# Altium schematic symbol library Power_Supervisor.SchLib: 77 symbols
Pins are listed as number, name and electrical type; pins without a type are passive.

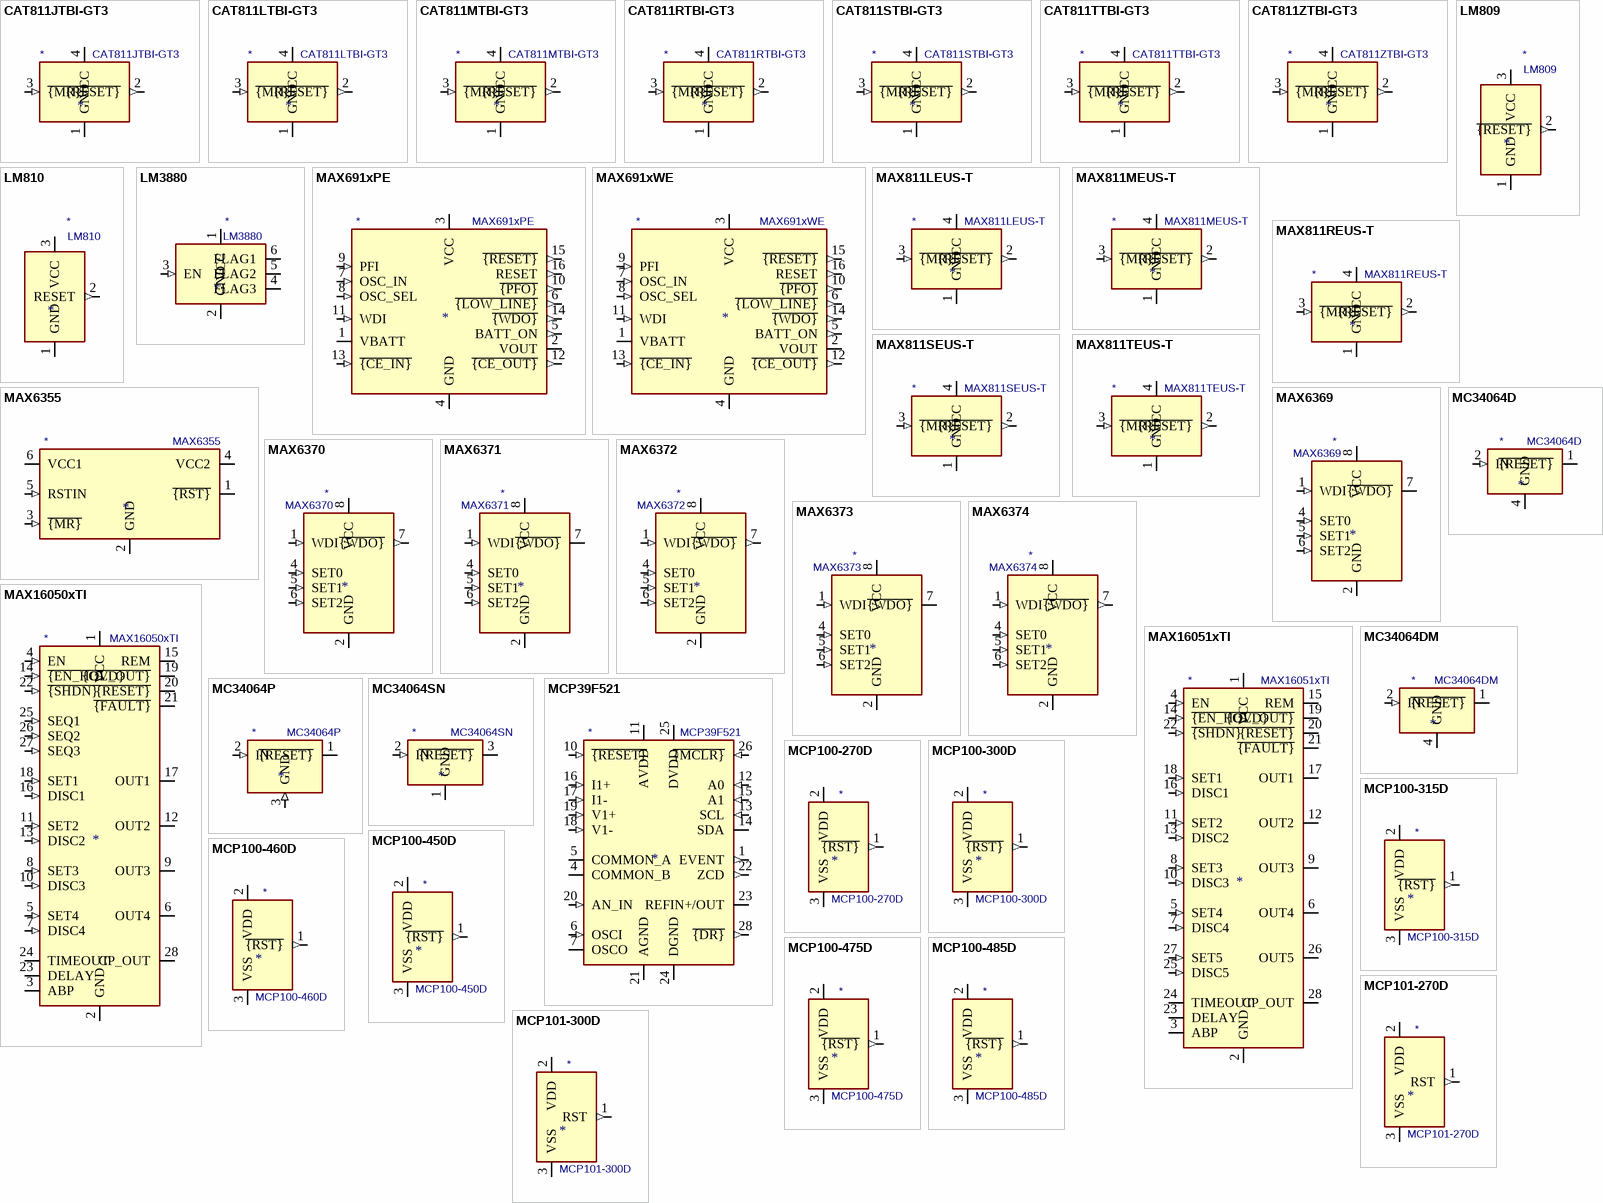
[diagram p0: symbols CAT811JTBI-GT3 to MCP101-300D]

## CAT811JTBI-GT3
designator *  value CAT811JTBI-GT3
ki_keywords: Supervisor Reset; ki_description: Power supply supervisor, Manual reset, Threshold 4.00V, SOT-143; ki_fp_filters: SOT*143*; Footprint: Package_TO_SOT_SMD:SOT-143; Supplier: http://www.onsemi.com/pub/Collateral/CAT811-D.PDF
footprint SOT-143
pins: 1 GND (power), 2 ~{{RESET}} (out), 3 ~{{MR}} (in), 4 VCC (power)

## CAT811LTBI-GT3
designator *  value CAT811LTBI-GT3
ki_keywords: Supervisor Reset; ki_description: Power supply supervisor, Manual reset, Threshold 4.63V, SOT-143; ki_fp_filters: SOT*143*; Footprint: Package_TO_SOT_SMD:SOT-143; Supplier: http://www.onsemi.com/pub/Collateral/CAT811-D.PDF
footprint SOT-143
pins: 1 GND (power), 2 ~{{RESET}} (out), 3 ~{{MR}} (in), 4 VCC (power)

## CAT811MTBI-GT3
designator *  value CAT811MTBI-GT3
ki_keywords: Supervisor Reset; ki_description: Power supply supervisor, Manual reset, Threshold 4.38V, SOT-143; ki_fp_filters: SOT*143*; Footprint: Package_TO_SOT_SMD:SOT-143; Supplier: http://www.onsemi.com/pub/Collateral/CAT811-D.PDF
footprint SOT-143
pins: 1 GND (power), 2 ~{{RESET}} (out), 3 ~{{MR}} (in), 4 VCC (power)

## CAT811RTBI-GT3
designator *  value CAT811RTBI-GT3
ki_keywords: Supervisor Reset; ki_description: Power supply supervisor, Manual reset, Threshold 2.63V, SOT-143; ki_fp_filters: SOT*143*; Footprint: Package_TO_SOT_SMD:SOT-143; Supplier: http://www.onsemi.com/pub/Collateral/CAT811-D.PDF
footprint SOT-143
pins: 1 GND (power), 2 ~{{RESET}} (out), 3 ~{{MR}} (in), 4 VCC (power)

## CAT811STBI-GT3
designator *  value CAT811STBI-GT3
ki_keywords: Supervisor Reset; ki_description: Power supply supervisor, Manual reset, Threshold 2.93V, SOT-143; ki_fp_filters: SOT*143*; Footprint: Package_TO_SOT_SMD:SOT-143; Supplier: http://www.onsemi.com/pub/Collateral/CAT811-D.PDF
footprint SOT-143
pins: 1 GND (power), 2 ~{{RESET}} (out), 3 ~{{MR}} (in), 4 VCC (power)

## CAT811TTBI-GT3
designator *  value CAT811TTBI-GT3
ki_keywords: Supervisor Reset; ki_description: Power supply supervisor, Manual reset, Threshold 3.08V, SOT-143; ki_fp_filters: SOT*143*; Footprint: Package_TO_SOT_SMD:SOT-143; Supplier: http://www.onsemi.com/pub/Collateral/CAT811-D.PDF
footprint SOT-143
pins: 1 GND (power), 2 ~{{RESET}} (out), 3 ~{{MR}} (in), 4 VCC (power)

## CAT811ZTBI-GT3
designator *  value CAT811ZTBI-GT3
ki_keywords: Supervisor Reset; ki_description: Power supply supervisor, Manual reset, Threshold 2.32V, SOT-143; ki_fp_filters: SOT*143*; Footprint: Package_TO_SOT_SMD:SOT-143; Supplier: http://www.onsemi.com/pub/Collateral/CAT811-D.PDF
footprint SOT-143
pins: 1 GND (power), 2 ~{{RESET}} (out), 3 ~{{MR}} (in), 4 VCC (power)

## LM809
designator *  value LM809
ki_keywords: reset supervisor; ki_description: Microprocessor Reset (active-low) Circuit, SOT-23; ki_fp_filters: SOT?23*; Footprint: Package_TO_SOT_SMD:SOT-23; Supplier: http://www.ti.com/lit/ds/symlink/lm809.pdf
footprint SOT-23
pins: 1 GND (power), 2 ~{{RESET}} (out), 3 VCC (power)

## LM810
designator *  value LM810
ki_keywords: reset supervisor; ki_description: Microprocessor Reset (active-high) Circuit, SOT-23; ki_fp_filters: SOT?23*; Footprint: Package_TO_SOT_SMD:SOT-23; Supplier: http://www.ti.com/lit/ds/symlink/lm809.pdf
footprint SOT-23
pins: 1 GND (power), 2 RESET (out), 3 VCC (power)

## LM3880
designator *  value LM3880
ki_keywords: Power Sequencer; ki_description: Simple Power Sequencer, SOT-23-6; ki_fp_filters: SOT?23*; Footprint: Package_TO_SOT_SMD:SOT-23-6; Supplier: http://www.ti.com/lit/ds/symlink/lm3880.pdf
footprint SOT-23-6
pins: 1 VCC (power), 2 GND (power), 3 EN (in), 4 FLAG3 (oc), 5 FLAG2 (oc), 6 FLAG1 (oc)

## MAX691xPE
designator *  value MAX691xPE
ki_keywords: Power Supervisor; ki_description: Microprocessor Supervisory Circuit, DIP-16; ki_fp_filters: DIP*W7.62mm*; Footprint: Package_DIP:DIP-16_W7.62mm; Supplier: https://datasheets.maximintegrated.com/en/ds/MAX690-MAX695.pdf
footprint DIP-16_W7.62mm
pins: 1 VBATT (power), 2 VOUT (power), 3 VCC (power), 4 GND (power), 5 BATT_ON (out), 6 ~{{LOW_LINE}} (out), 7 OSC_IN (in), 8 OSC_SEL (in), 9 PFI (in), 10 ~{{PFO}} (out), 11 WDI (in), 12 ~{{CE_OUT}} (out), 13 ~{{CE_IN}} (in), 14 ~{{WDO}} (out), 15 ~{{RESET}} (out), 16 RESET (out)

## MAX691xWE
designator *  value MAX691xWE
ki_keywords: Power Supervisor; ki_description: Microprocessor Supervisory Circuit, SOIC-16; ki_fp_filters: SOIC*7.5x10.3mm*P1.27mm*; Footprint: Package_SO:SOIC-16W_7.5x10.3mm_P1.27mm; Supplier: https://datasheets.maximintegrated.com/en/ds/MAX690-MAX695.pdf
footprint SOIC-16W_7.5x10.3mm_P1.27mm
pins: 1 VBATT (power), 2 VOUT (power), 3 VCC (power), 4 GND (power), 5 BATT_ON (out), 6 ~{{LOW_LINE}} (out), 7 OSC_IN (in), 8 OSC_SEL (in), 9 PFI (in), 10 ~{{PFO}} (out), 11 WDI (in), 12 ~{{CE_OUT}} (out), 13 ~{{CE_IN}} (in), 14 ~{{WDO}} (out), 15 ~{{RESET}} (out), 16 RESET (out)

## MAX811LEUS-T
designator *  value MAX811LEUS-T
ki_keywords: Supervisor Reset; ki_description: Power supply supervisor, Manual reset, Threshold 4.63V, SOT-143; ki_fp_filters: SOT*143*; Footprint: Package_TO_SOT_SMD:SOT-143; Supplier: https://datasheets.maximintegrated.com/en/ds/MAX811-MAX812.pdf
footprint SOT-143
pins: 1 GND (power), 2 ~{{RESET}} (out), 3 ~{{MR}} (in), 4 VCC (power)

## MAX811MEUS-T
designator *  value MAX811MEUS-T
ki_keywords: Supervisor Reset; ki_description: Power supply supervisor, Manual reset, Threshold 4.38V, SOT-143; ki_fp_filters: SOT*143*; Footprint: Package_TO_SOT_SMD:SOT-143; Supplier: https://datasheets.maximintegrated.com/en/ds/MAX811-MAX812.pdf
footprint SOT-143
pins: 1 GND (power), 2 ~{{RESET}} (out), 3 ~{{MR}} (in), 4 VCC (power)

## MAX811REUS-T
designator *  value MAX811REUS-T
ki_keywords: Supervisor Reset; ki_description: Power supply supervisor, Manual reset, Threshold 2.63V, SOT-143; ki_fp_filters: SOT*143*; Footprint: Package_TO_SOT_SMD:SOT-143; Supplier: https://datasheets.maximintegrated.com/en/ds/MAX811-MAX812.pdf
footprint SOT-143
pins: 1 GND (power), 2 ~{{RESET}} (out), 3 ~{{MR}} (in), 4 VCC (power)

## MAX811SEUS-T
designator *  value MAX811SEUS-T
ki_keywords: Supervisor Reset; ki_description: Power supply supervisor, Manual reset, Threshold 2.93V, SOT-143; ki_fp_filters: SOT*143*; Footprint: Package_TO_SOT_SMD:SOT-143; Supplier: https://datasheets.maximintegrated.com/en/ds/MAX811-MAX812.pdf
footprint SOT-143
pins: 1 GND (power), 2 ~{{RESET}} (out), 3 ~{{MR}} (in), 4 VCC (power)

## MAX811TEUS-T
designator *  value MAX811TEUS-T
ki_keywords: Supervisor Reset; ki_description: Power supply supervisor, Manual reset, Threshold 3.08V, SOT-143; ki_fp_filters: SOT*143*; Footprint: Package_TO_SOT_SMD:SOT-143; Supplier: https://datasheets.maximintegrated.com/en/ds/MAX811-MAX812.pdf
footprint SOT-143
pins: 1 GND (power), 2 ~{{RESET}} (out), 3 ~{{MR}} (in), 4 VCC (power)

## MAX6355
designator *  value MAX6355
ki_keywords: Power Supervisor; ki_description: Dual Voltage μP Supervisory Circuits, SOT-23-6; ki_fp_filters: SOT?23*; Footprint: Package_TO_SOT_SMD:SOT-23-6; Supplier: https://datasheets.maximintegrated.com/en/ds/MAX6351-MAX6360.pdf
footprint SOT-23-6
pins: 1 ~{{RST}} (oc), 2 GND (power), 3 ~{{MR}} (in), 4 VCC2 (power), 5 RSTIN (in), 6 VCC1 (power)

## MAX6369
designator *  value MAX6369
ki_keywords: watchdog supervisor; ki_description: Precision Pin-Selectable Watchdog Timer, 200us to 60s, SOT-23-8; ki_fp_filters: SOT?23*; Footprint: Package_TO_SOT_SMD:SOT-23-8; Supplier: https://datasheets.maximintegrated.com/en/ds/MAX6369-MAX6374.pdf
footprint SOT-23-8
pins: 1 WDI (in), 2 GND (power), 3 NC (in) hidden, 4 SET0 (in), 5 SET1 (in), 6 SET2 (in), 7 ~{{WDO}} (oc), 8 VCC (power)

## MAX6370
designator *  value MAX6370
ki_keywords: watchdog supervisor; ki_description: Precision Pin-Selectable Watchdog Timer, 200us to 60s, SOT-23-8; ki_fp_filters: SOT?23*; Footprint: Package_TO_SOT_SMD:SOT-23-8; Supplier: https://datasheets.maximintegrated.com/en/ds/MAX6369-MAX6374.pdf
footprint SOT-23-8
pins: 1 WDI (in), 2 GND (power), 3 NC (in) hidden, 4 SET0 (in), 5 SET1 (in), 6 SET2 (in), 7 ~{{WDO}} (out), 8 VCC (power)

## MAX6371
designator *  value MAX6371
ki_keywords: watchdog supervisor; ki_description: Precision Pin-Selectable Watchdog Timer, 200us to 60s, SOT-23-8; ki_fp_filters: SOT?23*; Footprint: Package_TO_SOT_SMD:SOT-23-8; Supplier: https://datasheets.maximintegrated.com/en/ds/MAX6369-MAX6374.pdf
footprint SOT-23-8
pins: 1 WDI (in), 2 GND (power), 3 NC (in) hidden, 4 SET0 (in), 5 SET1 (in), 6 SET2 (in), 7 ~{{WDO}} (oc), 8 VCC (power)

## MAX6372
designator *  value MAX6372
ki_keywords: watchdog supervisor; ki_description: Precision Pin-Selectable Watchdog Timer, 200us to 60s, SOT-23-8; ki_fp_filters: SOT?23*; Footprint: Package_TO_SOT_SMD:SOT-23-8; Supplier: https://datasheets.maximintegrated.com/en/ds/MAX6369-MAX6374.pdf
footprint SOT-23-8
pins: 1 WDI (in), 2 GND (power), 3 NC (in) hidden, 4 SET0 (in), 5 SET1 (in), 6 SET2 (in), 7 ~{{WDO}} (out), 8 VCC (power)

## MAX6373
designator *  value MAX6373
ki_keywords: watchdog supervisor; ki_description: Precision Pin-Selectable Watchdog Timer, 200us to 60s, SOT-23-8; ki_fp_filters: SOT?23*; Footprint: Package_TO_SOT_SMD:SOT-23-8; Supplier: https://datasheets.maximintegrated.com/en/ds/MAX6369-MAX6374.pdf
footprint SOT-23-8
pins: 1 WDI (in), 2 GND (power), 3 NC (in) hidden, 4 SET0 (in), 5 SET1 (in), 6 SET2 (in), 7 ~{{WDO}} (oc), 8 VCC (power)

## MAX6374
designator *  value MAX6374
ki_keywords: watchdog supervisor; ki_description: Precision Pin-Selectable Watchdog Timer, 200us to 60s, SOT-23-8; ki_fp_filters: SOT?23*; Footprint: Package_TO_SOT_SMD:SOT-23-8; Supplier: https://datasheets.maximintegrated.com/en/ds/MAX6369-MAX6374.pdf
footprint SOT-23-8
pins: 1 WDI (in), 2 GND (power), 3 NC (in) hidden, 4 SET0 (in), 5 SET1 (in), 6 SET2 (in), 7 ~{{WDO}} (out), 8 VCC (power)

## MAX16050xTI
designator *  value MAX16050xTI
ki_keywords: power sequencing; ki_description: 5 Voltage Monitor/Sequencer with Reverse-Sequencing Capability, QFN-28; ki_fp_filters: QFN*1EP*4x4mm*P0.4mm*; Footprint: Package_DFN_QFN:QFN-28-1EP_4x4mm_P0.4mm_EP2.6x2.6mm; Supplier: https://datasheets.maximintegrated.com/en/ds/MAX16050-MAX16051.pdf
footprint QFN-28-1EP_4x4mm_P0.4mm_EP2.6x2.6mm
pins: 1 VCC (power), 2 GND (power), 3 ABP, 4 EN (in), 5 SET4 (in), 6 OUT4 (oc), 7 DISC4 (in), 8 SET3 (in), 9 OUT3 (oc), 10 DISC3 (in), 11 SET2 (in), 12 OUT2 (oc), 13 DISC2 (in), 14 ~{{EN_HOLD}} (in), 15 REM (oc), 16 DISC1 (in), 17 OUT1 (oc), 18 SET1 (in), 19 ~{{OV_OUT}} (oc), 20 ~{{RESET}} (oc), 21 ~{{FAULT}} (io), 22 ~{{SHDN}} (in), 23 DELAY, 24 TIMEOUT, 25 SEQ1 (in), 26 SEQ2 (in), 27 SEQ3 (in), 28 CP_OUT (power), 29 GND hidden

## MAX16051xTI
designator *  value MAX16051xTI
ki_keywords: power sequencing; ki_description: 6 Voltage Monitor/Sequencer with Reverse-Sequencing Capability, QFN-28; ki_fp_filters: QFN*1EP*4x4mm*P0.4mm*; Footprint: Package_DFN_QFN:QFN-28-1EP_4x4mm_P0.4mm_EP2.6x2.6mm; Supplier: https://datasheets.maximintegrated.com/en/ds/MAX16050-MAX16051.pdf
footprint QFN-28-1EP_4x4mm_P0.4mm_EP2.6x2.6mm
pins: 1 VCC (power), 2 GND (power), 3 ABP, 4 EN (in), 5 SET4 (in), 6 OUT4 (oc), 7 DISC4 (in), 8 SET3 (in), 9 OUT3 (oc), 10 DISC3 (in), 11 SET2 (in), 12 OUT2 (oc), 13 DISC2 (in), 14 ~{{EN_HOLD}} (in), 15 REM (oc), 16 DISC1 (in), 17 OUT1 (oc), 18 SET1 (in), 19 ~{{OV_OUT}} (oc), 20 ~{{RESET}} (oc), 21 ~{{FAULT}} (io), 22 ~{{SHDN}} (in), 23 DELAY, 24 TIMEOUT, 25 DISC5 (in), 26 OUT5 (oc), 27 SET5 (in), 28 CP_OUT (power), 29 GND hidden

## MC34064D
designator *  value MC34064D
ki_keywords: Power Supervisor; ki_description: Undervoltage Sensing Circuit, SOIC-8; ki_fp_filters: SOIC*3.9x4.9mm*P1.27mm*; Footprint: Package_SO:SOIC-8_3.9x4.9mm_P1.27mm; Supplier: https://www.onsemi.com/pub/Collateral/MC34064-D.PDF
footprint SOIC-8_3.9x4.9mm_P1.27mm
pins: 1 ~{{RESET}} (oc), 2 IN (in), 3 NC (in) hidden, 4 GND (power), 5 NC (in) hidden, 6 NC (in) hidden, 7 NC (in) hidden, 8 NC (in) hidden

## MC34064DM
designator *  value MC34064DM
ki_keywords: Power Supervisor; ki_description: Undervoltage Sensing Circuit, MSOP-8; ki_fp_filters: MSOP*3x3mm*P0.65mm*; Footprint: Package_SO:MSOP-8_3x3mm_P0.65mm; Supplier: https://www.onsemi.com/pub/Collateral/MC34064-D.PDF
footprint MSOP-8_3x3mm_P0.65mm
pins: 1 ~{{RESET}} (oc), 2 IN (in), 3 NC (in) hidden, 4 GND (power), 5 NC (in) hidden, 6 NC (in) hidden, 7 NC (in) hidden, 8 NC (in) hidden

## MC34064P
designator *  value MC34064P
ki_keywords: Power Supervisor; ki_description: Undervoltage Sensing Circuit, TO-92; ki_fp_filters: TO?92L?Inline*; Footprint: Package_TO_SOT_THT:TO-92L_Inline; Supplier: https://www.onsemi.com/pub/Collateral/MC34064-D.PDF
footprint TO-92L_Inline
pins: 1 ~{{RESET}} (oc), 2 IN (in), 3 GND (in)

## MC34064SN
designator *  value MC34064SN
ki_keywords: Power Supervisor; ki_description: Undervoltage Sensing Circuit, TSOP-5; ki_fp_filters: TSOP*1.65x3.05mm*P0.95mm*; Footprint: Package_SO:TSOP-5_1.65x3.05mm_P0.95mm; Supplier: https://www.onsemi.com/pub/Collateral/MC34064-D.PDF
footprint TSOP-5_1.65x3.05mm_P0.95mm
pins: 1 GND (power), 2 IN (in), 3 ~{{RESET}} (oc), 4 NC (in) hidden, 5 NC (in) hidden

## MCP39F521
designator *  value MCP39F521
ki_keywords: i2c power monitor; ki_description: Power Monitor, Calculation and Energy Accumulation, I2C, 16-bit, QFN-28; ki_fp_filters: QFN*1EP*5x5mm*P0.5mm*; Footprint: Package_DFN_QFN:QFN-28-1EP_5x5mm_P0.5mm_EP3.35x3.35mm; Supplier: http://ww1.microchip.com/downloads/en/DeviceDoc/20005442A.pdf
footprint QFN-28-1EP_5x5mm_P0.5mm_EP3.35x3.35mm
pins: 1 EVENT (out), 2 NC (in) hidden, 3 NC (in) hidden, 4 COMMON_B, 5 COMMON_A, 6 OSCI (in), 7 OSCO, 8 NC (in) hidden, 9 NC (in) hidden, 10 ~{{RESET}} (in), 11 AVDD (power), 12 A0 (in), 13 SCL (in), 14 SDA (io), 15 A1 (in), 16 I1+ (in), 17 I1- (in), 18 V1- (in), 19 V1+ (in), 20 AN_IN (in), 21 AGND (power), 22 ZCD (out), 23 REFIN+/OUT (io), 24 DGND (power), 25 DVDD (power), 26 ~{{MCLR}} (in), 27 DGND hidden, 28 ~{{DR}} (out), 29 DGND hidden

## MCP100-270D
designator *  value MCP100-270D
ki_keywords: supervisor reset push-pull; ki_description: Microcontroller reset monitor, 2.70V threshold, active low output; ki_fp_filters: SOT?23* TO?92*; Supplier: http://ww1.microchip.com/downloads/en/DeviceDoc/11187f.pdf
pins: 1 ~{{RST}} (out), 2 VDD (power), 3 VSS (power)

## MCP100-300D
designator *  value MCP100-300D
ki_keywords: supervisor reset push-pull; ki_description: Microcontroller reset monitor, 3.00V threshold, active low output; ki_fp_filters: SOT?23* TO?92*; Supplier: http://ww1.microchip.com/downloads/en/DeviceDoc/11187f.pdf
pins: 1 ~{{RST}} (out), 2 VDD (power), 3 VSS (power)

## MCP100-315D
designator *  value MCP100-315D
ki_keywords: supervisor reset push-pull; ki_description: Microcontroller reset monitor, 3.15V threshold, active low output; ki_fp_filters: SOT?23* TO?92*; Supplier: http://ww1.microchip.com/downloads/en/DeviceDoc/11187f.pdf
pins: 1 ~{{RST}} (out), 2 VDD (power), 3 VSS (power)

## MCP100-450D
designator *  value MCP100-450D
ki_keywords: supervisor reset push-pull; ki_description: Microcontroller reset monitor, 4.50V threshold, active low output; ki_fp_filters: SOT?23* TO?92*; Supplier: http://ww1.microchip.com/downloads/en/DeviceDoc/11187f.pdf
pins: 1 ~{{RST}} (out), 2 VDD (power), 3 VSS (power)

## MCP100-460D
designator *  value MCP100-460D
ki_keywords: supervisor reset push-pull; ki_description: Microcontroller reset monitor, 4.60V threshold, active low output; ki_fp_filters: SOT?23* TO?92*; Supplier: http://ww1.microchip.com/downloads/en/DeviceDoc/11187f.pdf
pins: 1 ~{{RST}} (out), 2 VDD (power), 3 VSS (power)

## MCP100-475D
designator *  value MCP100-475D
ki_keywords: supervisor reset push-pull; ki_description: Microcontroller reset monitor, 4.75V threshold, active low output; ki_fp_filters: SOT?23* TO?92*; Supplier: http://ww1.microchip.com/downloads/en/DeviceDoc/11187f.pdf
pins: 1 ~{{RST}} (out), 2 VDD (power), 3 VSS (power)

## MCP100-485D
designator *  value MCP100-485D
ki_keywords: supervisor reset push-pull; ki_description: Microcontroller reset monitor, 4.85V threshold, active low output; ki_fp_filters: SOT?23* TO?92*; Supplier: http://ww1.microchip.com/downloads/en/DeviceDoc/11187f.pdf
pins: 1 ~{{RST}} (out), 2 VDD (power), 3 VSS (power)

## MCP101-270D
designator *  value MCP101-270D
ki_keywords: supervisor reset push-pull; ki_description: Microcontroller reset monitor, 2.70V threshold, active high output; ki_fp_filters: SOT?23* TO?92*; Supplier: http://ww1.microchip.com/downloads/en/DeviceDoc/11187f.pdf
pins: 1 RST (out), 2 VDD (power), 3 VSS (power)

## MCP101-300D
designator *  value MCP101-300D
ki_keywords: supervisor reset push-pull; ki_description: Microcontroller reset monitor, 3.00V threshold, active high output; ki_fp_filters: SOT?23* TO?92*; Supplier: http://ww1.microchip.com/downloads/en/DeviceDoc/11187f.pdf
pins: 1 RST (out), 2 VDD (power), 3 VSS (power)

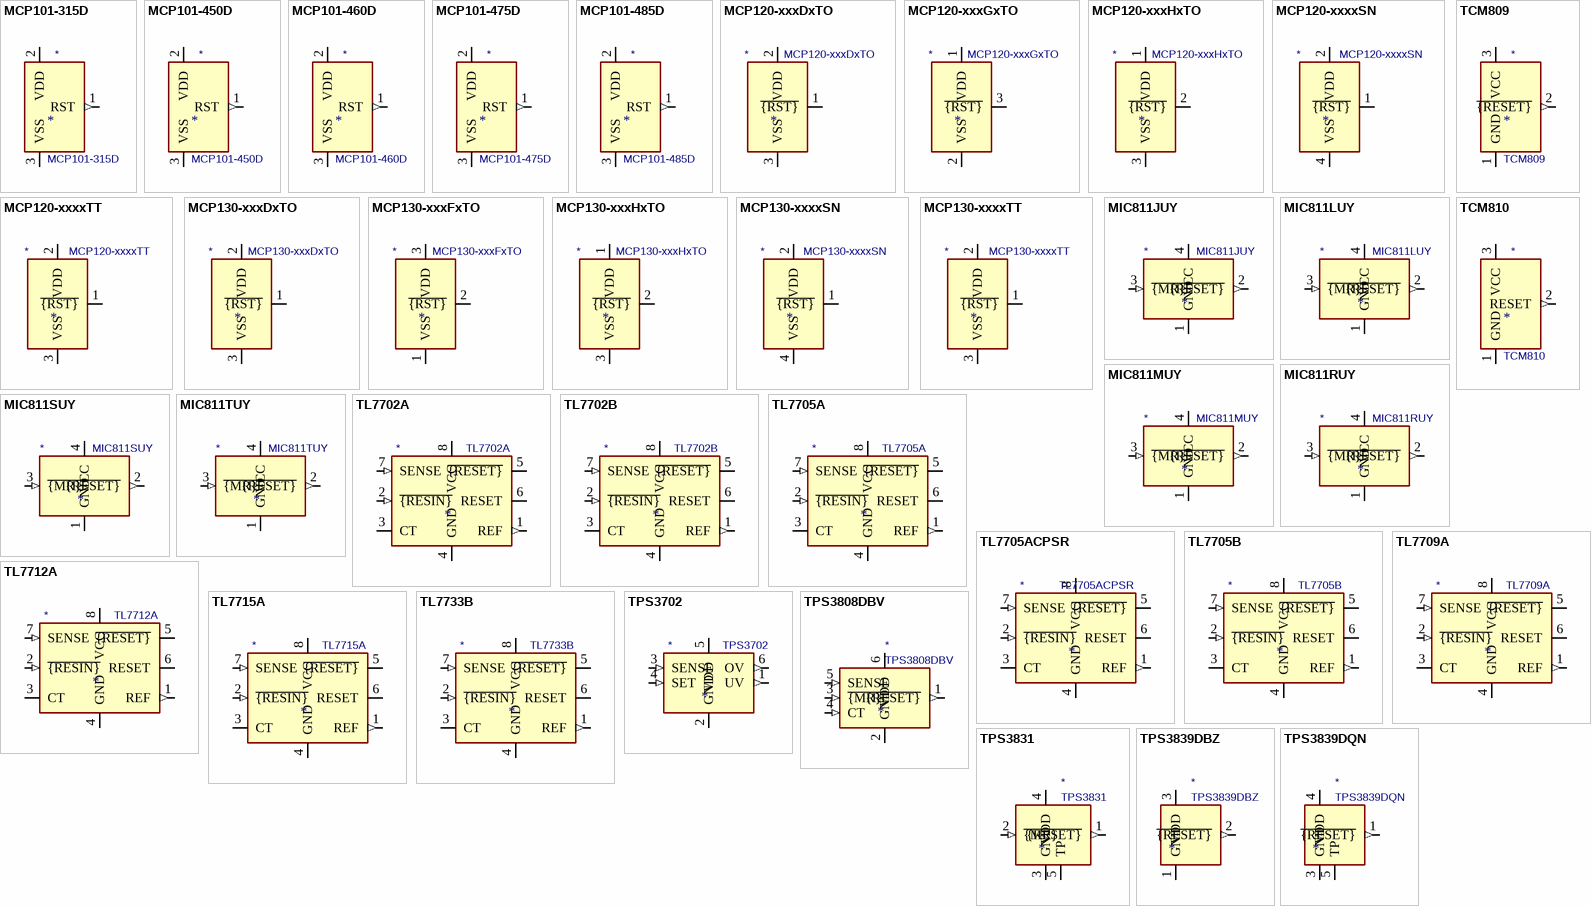
[diagram p1: symbols MCP101-315D to TPS3839DQN]

## MCP101-315D
designator *  value MCP101-315D
ki_keywords: supervisor reset push-pull; ki_description: Microcontroller reset monitor, 3.15V threshold, active high output; ki_fp_filters: SOT?23* TO?92*; Supplier: http://ww1.microchip.com/downloads/en/DeviceDoc/11187f.pdf
pins: 1 RST (out), 2 VDD (power), 3 VSS (power)

## MCP101-450D
designator *  value MCP101-450D
ki_keywords: supervisor reset push-pull; ki_description: Microcontroller reset monitor, 4.50V threshold, active high output; ki_fp_filters: SOT?23* TO?92*; Supplier: http://ww1.microchip.com/downloads/en/DeviceDoc/11187f.pdf
pins: 1 RST (out), 2 VDD (power), 3 VSS (power)

## MCP101-460D
designator *  value MCP101-460D
ki_keywords: supervisor reset push-pull; ki_description: Microcontroller reset monitor, 4.60V threshold, active high output; ki_fp_filters: SOT?23* TO?92*; Supplier: http://ww1.microchip.com/downloads/en/DeviceDoc/11187f.pdf
pins: 1 RST (out), 2 VDD (power), 3 VSS (power)

## MCP101-475D
designator *  value MCP101-475D
ki_keywords: supervisor reset push-pull; ki_description: Microcontroller reset monitor, 4.75V threshold, active high output; ki_fp_filters: SOT?23* TO?92*; Supplier: http://ww1.microchip.com/downloads/en/DeviceDoc/11187f.pdf
pins: 1 RST (out), 2 VDD (power), 3 VSS (power)

## MCP101-485D
designator *  value MCP101-485D
ki_keywords: supervisor reset push-pull; ki_description: Microcontroller reset monitor, 4.85V threshold, active high output; ki_fp_filters: SOT?23* TO?92*; Supplier: http://ww1.microchip.com/downloads/en/DeviceDoc/11187f.pdf
pins: 1 RST (out), 2 VDD (power), 3 VSS (power)

## MCP120-xxxDxTO
designator *  value MCP120-xxxDxTO
ki_keywords: supervisory circuit; ki_description: Microcontroller supervisory circuit, TO-92; ki_fp_filters: TO*92*Inline*; Footprint: Package_TO_SOT_THT:TO-92_Inline; Supplier: http://ww1.microchip.com/downloads/en/DeviceDoc/11184d.pdf
footprint TO-92_Inline
pins: 1 ~{{RST}} (oc), 2 VDD (power), 3 VSS (power)

## MCP120-xxxGxTO
designator *  value MCP120-xxxGxTO
ki_keywords: supervisory circuit; ki_description: Microcontroller supervisory circuit, TO-92; ki_fp_filters: TO*92*Inline*; Footprint: Package_TO_SOT_THT:TO-92_Inline; Supplier: http://ww1.microchip.com/downloads/en/DeviceDoc/11184d.pdf
footprint TO-92_Inline
pins: 1 VDD (power), 2 VSS (power), 3 ~{{RST}} (oc)

## MCP120-xxxHxTO
designator *  value MCP120-xxxHxTO
ki_keywords: supervisory circuit; ki_description: Microcontroller supervisory circuit, TO-92; ki_fp_filters: TO*92*Inline*; Footprint: Package_TO_SOT_THT:TO-92_Inline; Supplier: http://ww1.microchip.com/downloads/en/DeviceDoc/11184d.pdf
footprint TO-92_Inline
pins: 1 VDD (power), 2 ~{{RST}} (oc), 3 VSS (power)

## MCP120-xxxxSN
designator *  value MCP120-xxxxSN
ki_keywords: supervisory circuit; ki_description: Microcontroller supervisory circuit, SOIC-8; ki_fp_filters: SOIC*3.9x4.9mm*P1.27mm*; Footprint: Package_SO:SOIC-8_3.9x4.9mm_P1.27mm; Supplier: http://ww1.microchip.com/downloads/en/DeviceDoc/11184d.pdf
footprint SOIC-8_3.9x4.9mm_P1.27mm
pins: 1 ~{{RST}} (oc), 2 VDD (power), 3 NC (in) hidden, 4 VSS (power), 5 NC (in) hidden, 6 NC (in) hidden, 7 NC (in) hidden, 8 NC (in) hidden

## MCP120-xxxxTT
designator *  value MCP120-xxxxTT
ki_keywords: supervisory circuit; ki_description: Microcontroller supervisory circuit, SOT-23; ki_fp_filters: SOT?23*; Footprint: Package_TO_SOT_SMD:SOT-23; Supplier: http://ww1.microchip.com/downloads/en/DeviceDoc/11184d.pdf
footprint SOT-23
pins: 1 ~{{RST}} (oc), 2 VDD (power), 3 VSS (power)

## MCP130-xxxDxTO
designator *  value MCP130-xxxDxTO
ki_keywords: supervisory circuit pull-up; ki_description: Microcontroller supervisory circuit with internal 5 kΩ pull-up, TO-92; ki_fp_filters: TO*92*Inline*; Footprint: Package_TO_SOT_THT:TO-92_Inline; Supplier: http://ww1.microchip.com/downloads/en/DeviceDoc/11184d.pdf
footprint TO-92_Inline
pins: 1 ~{{RST}} (oc), 2 VDD (power), 3 VSS (power)

## MCP130-xxxFxTO
designator *  value MCP130-xxxFxTO
ki_keywords: supervisory circuit pull-up; ki_description: Microcontroller supervisory circuit with internal 5 kΩ pull-up, TO-92; ki_fp_filters: TO*92*Inline*; Footprint: Package_TO_SOT_THT:TO-92_Inline; Supplier: http://ww1.microchip.com/downloads/en/DeviceDoc/11184d.pdf
footprint TO-92_Inline
pins: 1 VSS (power), 2 ~{{RST}} (oc), 3 VDD (power)

## MCP130-xxxHxTO
designator *  value MCP130-xxxHxTO
ki_keywords: supervisory circuit pull-up; ki_description: Microcontroller supervisory circuit with internal 5 kΩ pull-up, TO-92; ki_fp_filters: TO*92*Inline*; Footprint: Package_TO_SOT_THT:TO-92_Inline; Supplier: http://ww1.microchip.com/downloads/en/DeviceDoc/11184d.pdf
footprint TO-92_Inline
pins: 1 VDD (power), 2 ~{{RST}} (oc), 3 VSS (power)

## MCP130-xxxxSN
designator *  value MCP130-xxxxSN
ki_keywords: supervisory circuit pull-up; ki_description: Microcontroller supervisory circuit with internal 5 kΩ pull-up, SOIC-8; ki_fp_filters: SOIC*3.9x4.9mm*P1.27mm*; Footprint: Package_SO:SOIC-8_3.9x4.9mm_P1.27mm; Supplier: http://ww1.microchip.com/downloads/en/DeviceDoc/11184d.pdf
footprint SOIC-8_3.9x4.9mm_P1.27mm
pins: 1 ~{{RST}} (oc), 2 VDD (power), 3 NC (in) hidden, 4 VSS (power), 5 NC (in) hidden, 6 NC (in) hidden, 7 NC (in) hidden, 8 NC (in) hidden

## MCP130-xxxxTT
designator *  value MCP130-xxxxTT
ki_keywords: supervisory circuit pull-up; ki_description: Microcontroller supervisory circuit with internal 5 kΩ pull-up, SOT-23; ki_fp_filters: SOT?23*; Footprint: Package_TO_SOT_SMD:SOT-23; Supplier: http://ww1.microchip.com/downloads/en/DeviceDoc/11184d.pdf
footprint SOT-23
pins: 1 ~{{RST}} (oc), 2 VDD (power), 3 VSS (power)

## MIC811JUY
designator *  value MIC811JUY
ki_keywords: Supervisor Reset; ki_description: Power supply supervisor, Manual reset, Threshold 4.00V, SOT-143; ki_fp_filters: SOT*143*; Footprint: Package_TO_SOT_SMD:SOT-143; Supplier: http://ww1.microchip.com/downloads/en/DeviceDoc/mic811.pdf
footprint SOT-143
pins: 1 GND (power), 2 ~{{RESET}} (out), 3 ~{{MR}} (in), 4 VCC (power)

## MIC811LUY
designator *  value MIC811LUY
ki_keywords: Supervisor Reset; ki_description: Power supply supervisor, Manual reset, Threshold 4.63V, SOT-143; ki_fp_filters: SOT*143*; Footprint: Package_TO_SOT_SMD:SOT-143; Supplier: http://ww1.microchip.com/downloads/en/DeviceDoc/mic811.pdf
footprint SOT-143
pins: 1 GND (power), 2 ~{{RESET}} (out), 3 ~{{MR}} (in), 4 VCC (power)

## MIC811MUY
designator *  value MIC811MUY
ki_keywords: Supervisor Reset; ki_description: Power supply supervisor, Manual reset, Threshold 4.38V, SOT-143; ki_fp_filters: SOT*143*; Footprint: Package_TO_SOT_SMD:SOT-143; Supplier: http://ww1.microchip.com/downloads/en/DeviceDoc/mic811.pdf
footprint SOT-143
pins: 1 GND (power), 2 ~{{RESET}} (out), 3 ~{{MR}} (in), 4 VCC (power)

## MIC811RUY
designator *  value MIC811RUY
ki_keywords: Supervisor Reset; ki_description: Power supply supervisor, Manual reset, Threshold 2.63V, SOT-143; ki_fp_filters: SOT*143*; Footprint: Package_TO_SOT_SMD:SOT-143; Supplier: http://ww1.microchip.com/downloads/en/DeviceDoc/mic811.pdf
footprint SOT-143
pins: 1 GND (power), 2 ~{{RESET}} (out), 3 ~{{MR}} (in), 4 VCC (power)

## MIC811SUY
designator *  value MIC811SUY
ki_keywords: Supervisor Reset; ki_description: Power supply supervisor, Manual reset, Threshold 2.93V, SOT-143; ki_fp_filters: SOT*143*; Footprint: Package_TO_SOT_SMD:SOT-143; Supplier: http://ww1.microchip.com/downloads/en/DeviceDoc/mic811.pdf
footprint SOT-143
pins: 1 GND (power), 2 ~{{RESET}} (out), 3 ~{{MR}} (in), 4 VCC (power)

## MIC811TUY
designator *  value MIC811TUY
ki_keywords: Supervisor Reset; ki_description: Power supply supervisor, Manual reset, Threshold 3.08V, SOT-143; ki_fp_filters: SOT*143*; Footprint: Package_TO_SOT_SMD:SOT-143; Supplier: http://ww1.microchip.com/downloads/en/DeviceDoc/mic811.pdf
footprint SOT-143
pins: 1 GND (power), 2 ~{{RESET}} (out), 3 ~{{MR}} (in), 4 VCC (power)

## TCM809
designator *  value TCM809
ki_keywords: supervisor reset push-pull; ki_description: Microcontroller reset monitor, active low output; ki_fp_filters: SOT?23* *SC?70*; Supplier: http://ww1.microchip.com/downloads/en/DeviceDoc/21661E.pdf
pins: 1 GND (power), 2 ~{{RESET}} (out), 3 VCC (power)

## TCM810
designator *  value TCM810
ki_keywords: supervisor reset push-pull; ki_description: Microcontroller reset monitor, active high output; ki_fp_filters: SOT?23* *SC?70*; Supplier: http://ww1.microchip.com/downloads/en/DeviceDoc/21661E.pdf
pins: 1 GND (power), 2 RESET (out), 3 VCC (power)

## TL7702A
designator *  value TL7702A
ki_keywords: voltage supervisor; ki_description: Supply-Voltage Supervisors, 2.53V, PDIP-8/SOIC-8; ki_fp_filters: SOIC*3.9x4.9mm*P1.27mm* DIP*W7.62mm*; Supplier: http://www.ti.com.cn/cn/lit/ds/symlink/tl7705a.pdf
pins: 1 REF (out), 2 ~{{RESIN}} (in), 3 CT, 4 GND (power), 5 ~{{RESET}} (oc), 6 RESET (oc), 7 SENSE (in), 8 VCC (power)

## TL7702B
designator *  value TL7702B
ki_keywords: voltage supervisor; ki_description: Supply-Voltage Supervisors, 2.53V, PDIP-8/SOIC-8; ki_fp_filters: SOIC*3.9x4.9mm*P1.27mm* DIP*W7.62mm*; Supplier: http://www.ti.com.cn/cn/lit/ds/symlink/tl7705b.pdf
pins: 1 REF (out), 2 ~{{RESIN}} (in), 3 CT, 4 GND (power), 5 ~{{RESET}} (oc), 6 RESET (oc), 7 SENSE (in), 8 VCC (power)

## TL7705A
designator *  value TL7705A
ki_keywords: voltage supervisor; ki_description: Supply-Voltage Supervisors, 4.55V, PDIP-8/SOIC-8; ki_fp_filters: SOIC*3.9x4.9mm*P1.27mm* DIP*W7.62mm*; Supplier: http://www.ti.com.cn/cn/lit/ds/symlink/tl7705a.pdf
pins: 1 REF (out), 2 ~{{RESIN}} (in), 3 CT, 4 GND (power), 5 ~{{RESET}} (oc), 6 RESET (oc), 7 SENSE (in), 8 VCC (power)

## TL7705ACPSR
designator *  value TL7705ACPSR
ki_keywords: voltage supervisor; ki_description: Supply-Voltage Supervisors, 4.55V, SO-8; ki_fp_filters: SO*5.3x6.2mm*P1.27mm*; Footprint: Package_SO:SO-8_5.3x6.2mm_P1.27mm; Supplier: http://www.ti.com.cn/cn/lit/ds/symlink/tl7705a.pdf
footprint SO-8_5.3x6.2mm_P1.27mm
pins: 1 REF (out), 2 ~{{RESIN}} (in), 3 CT, 4 GND (power), 5 ~{{RESET}} (oc), 6 RESET (oc), 7 SENSE (in), 8 VCC (power)

## TL7705B
designator *  value TL7705B
ki_keywords: voltage supervisor; ki_description: Supply-Voltage Supervisors, 4.55V, PDIP-8/SOIC-8; ki_fp_filters: SOIC*3.9x4.9mm*P1.27mm* DIP*W7.62mm*; Supplier: http://www.ti.com.cn/cn/lit/ds/symlink/tl7705b.pdf
pins: 1 REF (out), 2 ~{{RESIN}} (in), 3 CT, 4 GND (power), 5 ~{{RESET}} (oc), 6 RESET (oc), 7 SENSE (in), 8 VCC (power)

## TL7709A
designator *  value TL7709A
ki_keywords: voltage supervisor; ki_description: Supply-Voltage Supervisors, 7.6V, PDIP-8/SOIC-8; ki_fp_filters: SOIC*3.9x4.9mm*P1.27mm* DIP*W7.62mm*; Supplier: http://www.ti.com.cn/cn/lit/ds/symlink/tl7705a.pdf
pins: 1 REF (out), 2 ~{{RESIN}} (in), 3 CT, 4 GND (power), 5 ~{{RESET}} (oc), 6 RESET (oc), 7 SENSE (in), 8 VCC (power)

## TL7712A
designator *  value TL7712A
ki_keywords: voltage supervisor; ki_description: Supply-Voltage Supervisors, 10.8V, PDIP-8/SOIC-8; ki_fp_filters: SOIC*3.9x4.9mm*P1.27mm* DIP*W7.62mm*; Supplier: http://www.ti.com.cn/cn/lit/ds/symlink/tl7705a.pdf
pins: 1 REF (out), 2 ~{{RESIN}} (in), 3 CT, 4 GND (power), 5 ~{{RESET}} (oc), 6 RESET (oc), 7 SENSE (in), 8 VCC (power)

## TL7715A
designator *  value TL7715A
ki_keywords: voltage supervisor; ki_description: Supply-Voltage Supervisors, 13.5V, PDIP-8/SOIC-8; ki_fp_filters: SOIC*3.9x4.9mm*P1.27mm* DIP*W7.62mm*; Supplier: http://www.ti.com.cn/cn/lit/ds/symlink/tl7705a.pdf
pins: 1 REF (out), 2 ~{{RESIN}} (in), 3 CT, 4 GND (power), 5 ~{{RESET}} (oc), 6 RESET (oc), 7 SENSE (in), 8 VCC (power)

## TL7733B
designator *  value TL7733B
ki_keywords: voltage supervisor; ki_description: Supply-Voltage Supervisors, 3.08V, PDIP-8/SOIC-8; ki_fp_filters: SOIC*3.9x4.9mm*P1.27mm* DIP*W7.62mm*; Supplier: http://www.ti.com.cn/cn/lit/ds/symlink/tl7705b.pdf
pins: 1 REF (out), 2 ~{{RESIN}} (in), 3 CT, 4 GND (power), 5 ~{{RESET}} (oc), 6 RESET (oc), 7 SENSE (in), 8 VCC (power)

## TPS3702
designator *  value TPS3702
ki_keywords: protection overvoltage unvervoltage monitor; ki_description: High-Accuracy, Overvoltage and Undervoltage Monitor, SOT-23-6; ki_fp_filters: SOT?23*; Footprint: Package_TO_SOT_SMD:SOT-23-6; Supplier: http://www.ti.com/lit/ds/symlink/tps3702.pdf
footprint SOT-23-6
pins: 1 UV (out), 2 GND (power), 3 SENSE (in), 4 SET (in), 5 VDD (power), 6 OV (out)

## TPS3808DBV
designator *  value TPS3808DBV
ki_keywords: supply voltage supervisor; ki_description: Low-Quiescent-Current, Programmable-Delay Supervisory Circuit, SOT-23-6; ki_fp_filters: SOT?23*; Footprint: Package_TO_SOT_SMD:SOT-23-6; Supplier: http://www.ti.com/lit/ds/symlink/tps3808.pdf
footprint SOT-23-6
pins: 1 ~{{RESET}} (out), 2 GND (power), 3 ~{{MR}} (in), 4 CT (in), 5 SENSE (in), 6 VDD (power)

## TPS3831
designator *  value TPS3831
ki_keywords: supply voltage supervisor; ki_description: 150-nA, Ultralow Power, Supply Voltage Monitor, X2SON-4; ki_fp_filters: Texas*X2SON*1x1mm*P0.65mm*; Footprint: Package_SON:Texas_X2SON-4_1x1mm_P0.65mm; Supplier: http://www.ti.com/lit/ds/sbvs193d/sbvs193d.pdf
footprint Texas_X2SON-4_1x1mm_P0.65mm
pins: 1 ~{{RESET}} (out), 2 ~{{MR}} (in), 3 GND (power), 4 VDD (power), 5 TP (power)

## TPS3839DBZ
designator *  value TPS3839DBZ
ki_keywords: supply voltage supervisor; ki_description: 150-nA, Ultralow Power, Supply Voltage Monitor, SOT-23; ki_fp_filters: SOT?23*; Footprint: Package_TO_SOT_SMD:SOT-23; Supplier: http://www.ti.com/lit/ds/sbvs193d/sbvs193d.pdf
footprint SOT-23
pins: 1 GND (power), 2 ~{{RESET}} (out), 3 VDD (power)

## TPS3839DQN
designator *  value TPS3839DQN
ki_keywords: supply voltage supervisor; ki_description: 150-nA, Ultralow Power, Supply Voltage Monitor, X2SON-4; ki_fp_filters: Texas*X2SON*1x1mm*P0.65mm*; Footprint: Package_SON:Texas_X2SON-4_1x1mm_P0.65mm; Supplier: http://www.ti.com/lit/ds/sbvs193d/sbvs193d.pdf
footprint Texas_X2SON-4_1x1mm_P0.65mm
pins: 1 ~{{RESET}} (out), 2 NC (in) hidden, 3 GND (power), 4 VDD (power), 5 TP (power)